# EAGLE library part LSM9DS0 (library pixhawk2)
LSM9DS0 Accel compass gyro
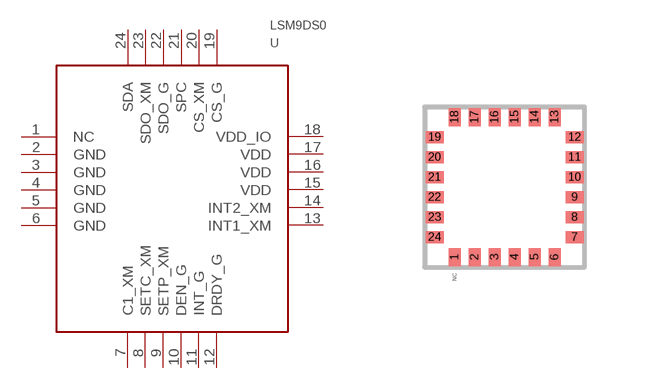
[diagram p95: symbol with the pads of LGA-24; footprint LGA-24]

Designator prefix -

## LSM9DS0  [LGA-24]
1  NC
2  GND
3  GND
4  GND
5  GND
6  GND
7  C1_XM
8  SETC_XM
9  SETP_XM
10  DEN_G
11  INT_G
12  DRDY_G
13  INT1_XM
14  INT2_XM
15  VDD
16  VDD
17  VDD
18  VDD_IO
19  CS_G
20  CS_XM
21  SPC
22  SDO_G
23  SDO_XM
24  SDA

## Footprint LGA-24 (pad centres in mm)
smd 0.3 x 0.45: 1 -1.25,-1.75; 2 -0.75,-1.75; 3 -0.25,-1.75; 4 0.25,-1.75; 5 0.75,-1.75; 6 1.25,-1.75; 13 1.25,1.75; 14 0.75,1.75; 15 0.25,1.75; 16 -0.25,1.75; 17 -0.75,1.75; 18 -1.25,1.75
smd 0.45 x 0.3: 7 1.75,-1.25; 8 1.75,-0.75; 9 1.75,-0.25; 10 1.75,0.25; 11 1.75,0.75; 12 1.75,1.25; 19 -1.75,1.25; 20 -1.75,0.75; 21 -1.75,0.25; 22 -1.75,-0.25; 23 -1.75,-0.75; 24 -1.75,-1.25